# Altium schematic symbol library ESD_Suppressors_TVS_Diodes.SchLib: 6 symbols
Pins are listed as number, name and electrical type; pins without a type are passive.

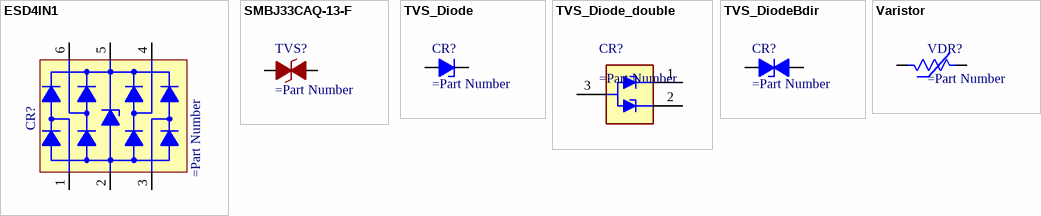
[diagram p0: symbols ESD4IN1 to Varistor]

## ESD4IN1
designator CR?
pins: 1 I/O 1, 2 GND, 3 I/O 2, 4 I/O 3, 5 Vp, 6 I/O 4

## SMBJ33CAQ-13-F
designator TVS?
pins: 1, 2

## TVS_Diode
designator CR?
pins: 1 C, 2 A

## TVS_Diode_double
designator CR?
pins: 1, 2, 3

## TVS_DiodeBdir
designator CR?
pins: 1 C, 2 A

## Varistor
designator VDR?
pins: 1, 2